# EAGLE library part 5530843_MATE (library 5530843-6 - backplane)
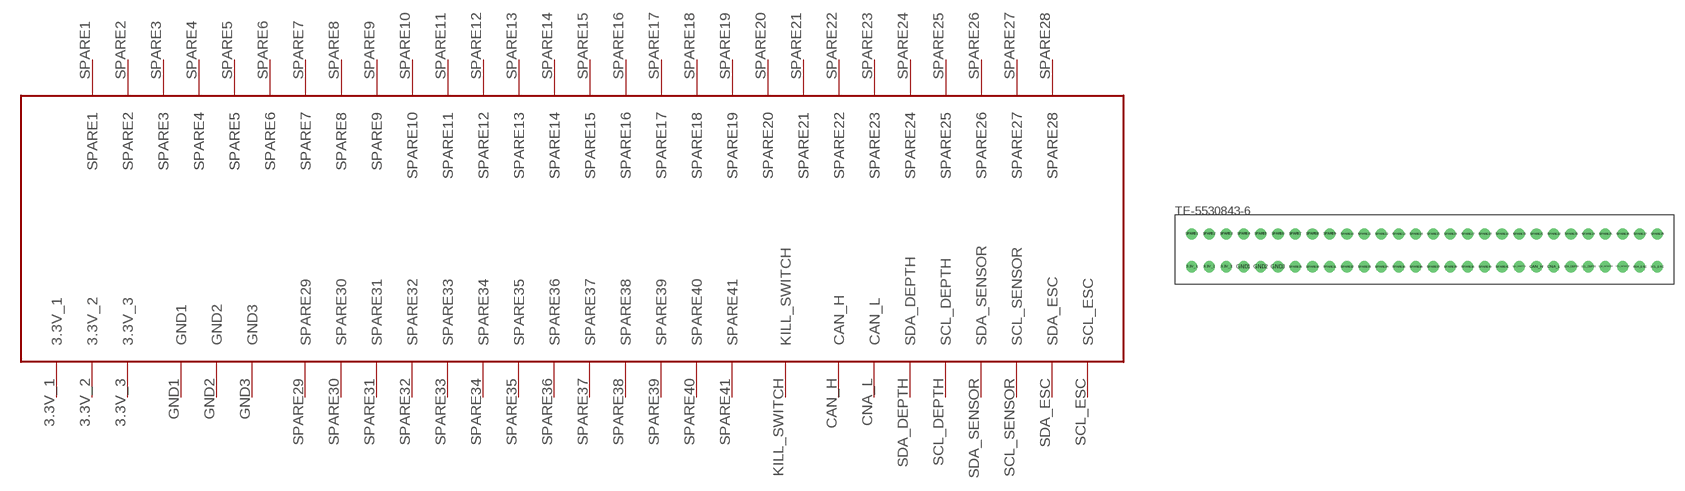
[diagram p0: symbol with the pads of 5530843-6-BACKPLANEMATE; footprint 5530843-6-BACKPLANEMATE]

Designator prefix -

## 5530843_MATE  [5530843-6-BACKPLANEMATE]
3.3V_1  3.3V_1
3.3V_2  3.3V_2
3.3V_3  3.3V_3
CAN_H  CAN_H
CNA_L  CAN_L
GND1  GND1
GND2  GND2
GND3  GND3
KILL_SWITCH  KILL_SWITCH
SCL_DEPTH  SCL_DEPTH
SCL_ESC  SCL_ESC
SCL_SENSOR  SCL_SENSOR
SDA_DEPTH  SDA_DEPTH
SDA_ESC  SDA_ESC
SDA_SENSOR  SDA_SENSOR
SPARE1  SPARE1
SPARE2  SPARE2
SPARE3  SPARE3
SPARE4  SPARE4
SPARE5  SPARE5
SPARE6  SPARE6
SPARE7  SPARE7
SPARE8  SPARE8
SPARE9  SPARE9
SPARE10  SPARE10
SPARE11  SPARE11
SPARE12  SPARE12
SPARE13  SPARE13
SPARE14  SPARE14
SPARE15  SPARE15
SPARE16  SPARE16
SPARE17  SPARE17
SPARE18  SPARE18
SPARE19  SPARE19
SPARE20  SPARE20
SPARE21  SPARE21
SPARE22  SPARE22
SPARE23  SPARE23
SPARE24  SPARE24
SPARE25  SPARE25
SPARE26  SPARE26
SPARE27  SPARE27
SPARE28  SPARE28
SPARE29  SPARE29
SPARE30  SPARE30
SPARE31  SPARE31
SPARE32  SPARE32
SPARE33  SPARE33
SPARE34  SPARE34
SPARE35  SPARE35
SPARE36  SPARE36
SPARE37  SPARE37
SPARE38  SPARE38
SPARE39  SPARE39
SPARE40  SPARE40
SPARE41  SPARE41

## Footprint 5530843-6-BACKPLANEMATE (pad centres in mm)
drill 1.092: 3.3V_1 0,0; 3.3V_2 2.54,0; 3.3V_3 5.08,0; CAN_H 50.8,0; CNA_L 53.34,0; GND1 7.62,0; GND2 10.16,0; GND3 12.7,0; KILL_SWITCH 48.26,0; SCL_DEPTH 58.42,0; SCL_ESC 68.58,0; SCL_SENSOR 63.5,0; SDA_DEPTH 55.88,0; SDA_ESC 66.04,0; SDA_SENSOR 60.96,0; SPARE1 0,4.851; SPARE2 2.54,4.851; SPARE3 5.08,4.851; SPARE4 7.62,4.851; SPARE5 10.16,4.851; SPARE6 12.7,4.851; SPARE7 15.24,4.851; SPARE8 17.78,4.851; SPARE9 20.32,4.851; SPARE10 22.86,4.851; SPARE11 25.4,4.851; SPARE12 27.94,4.851; SPARE13 30.48,4.851; SPARE14 33.02,4.851; SPARE15 35.56,4.851; SPARE16 38.1,4.851; SPARE17 40.64,4.851; SPARE18 43.18,4.851; SPARE19 45.72,4.851; SPARE20 48.26,4.851; SPARE21 50.8,4.851; SPARE22 53.34,4.851; SPARE23 55.88,4.851; SPARE24 58.42,4.851; SPARE25 60.96,4.851; SPARE26 63.5,4.851; SPARE27 66.04,4.851; SPARE28 68.58,4.851; SPARE29 15.24,0; SPARE30 17.78,0; SPARE31 20.32,0; SPARE32 22.86,0; SPARE33 25.4,0; SPARE34 27.94,0; SPARE35 30.48,0; SPARE36 33.02,0; SPARE37 35.56,0; SPARE38 38.1,0; SPARE39 40.64,0; SPARE40 43.18,0; SPARE41 45.72,0